# Altium footprint library My_PcbLib.PcbLib: 32 footprints (part 1 of 2)
Each footprint in its own frame and in the unit in brackets; x right, y up, seen from the top. Pads: shape width x height; smd on the part's side, far side on the other; paste and mask are expansions set on the pad; w line width, h text height; cw(c..) or ccw(c..) is an arc to the next point about the centre after c.
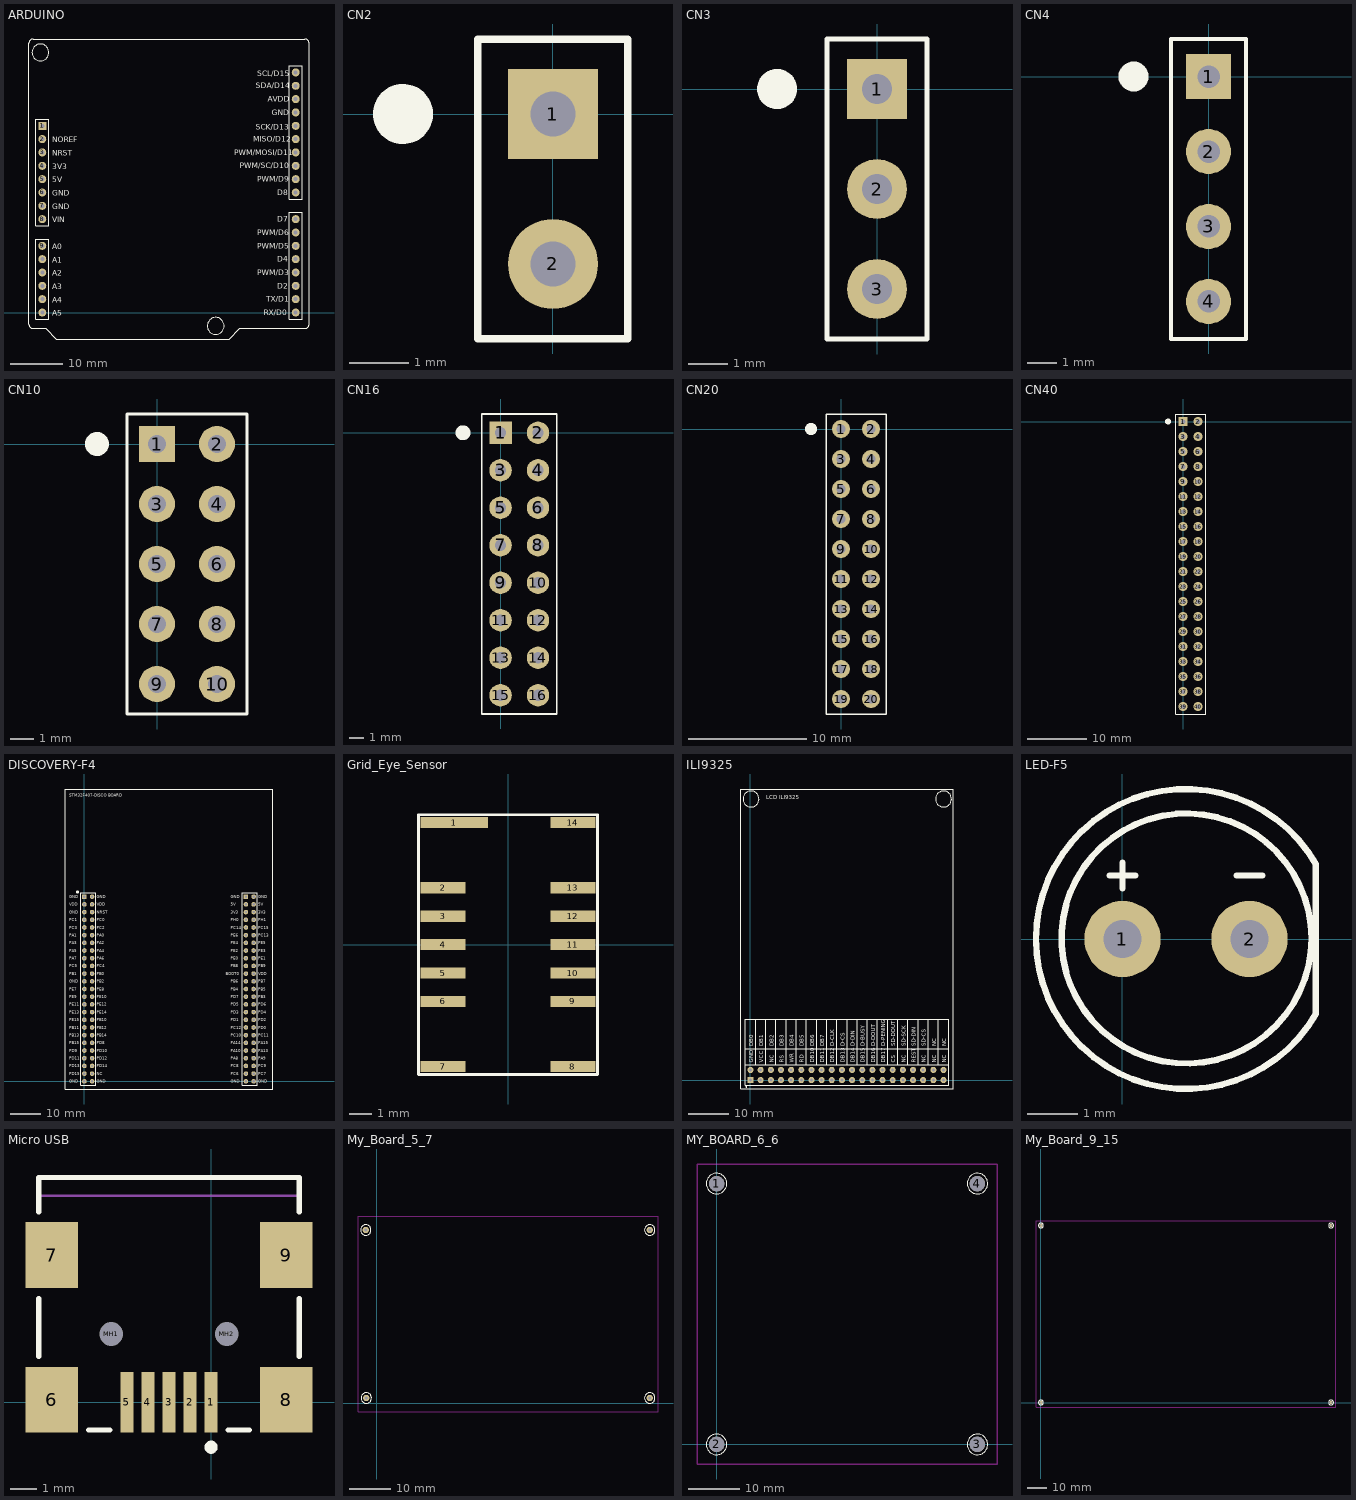
[diagram p0: the footprints below, top view; thin cyan lines are the x and y axes]

## ARDUINO [mil]
pads (32):
  rect 60x60 hole 30: 1(300,1400)
  round 60 hole 30: 2(300,1300) 3(300,1200) 4(300,1100) 5(300,1000) 6(300,900) 7(300,800) 8(300,700) 9(300,500) 10(300,400) 11(300,300) 12(300,200) 13(300,100) 14(300,0) 15(2200,1800) 16(2200,1700) 17(2200,1600) 18(2200,1500) 19(2200,1400) 20(2200,1300) 21(2200,1200) 22(2200,1000) 23(2200,1100) 24(2200,900) 25(2200,700) 26(2200,600) 27(2200,500) 28(2200,400) 29(2200,300) 30(2200,200) 31(2200,100) 32(2200,0)
Top Overlay:
  circle w5: c285.83,1950 r62.99
  circle w5: c1600,-100 r62.99
  lines w5: 200,-86.08 ccw(c233.6,-86.08) 233.6,-119.69 324.8,-119.69 403.54,-198.43 1702.76,-198.43 1781.5,-119.69 2266.4,-119.69 ccw(c2266.4,-86.08) 2300,-86.08 2300,2016.97 ccw(c2266.4,2016.97) 2266.4,2050.58 233.6,2050.58 ccw(c233.6,2016.97) 200,2016.97 200,-86.08 ; 250,-50 250,550 350,550 350,-50 250,-50 ; 250,650 250,1450 350,1450 350,650 250,650 ; 2150,-50 2225,-50 2250,-50 2250,50 2250,750 2150,750 2150,50 2150,-50 ; 2150,850 2150,1850 2250,1850 2250,850 2150,850
  text "VIN" at 375,675 h40
  text "GND" at 375,775 h40
  text "GND" at 375,875 h40
  text "5V" at 375,975 h40
  text "3V3" at 375,1075 h40
  text "NRST" at 375,1175 h40
  text "NOREF" at 375,1275 h40
  text "A0" at 375,475 h40
  text "A1" at 375,375 h40
  text "A2" at 375,275 h40
  text "A3" at 375,175 h40
  text "A4" at 375,75 h40
  text "A5" at 375,-25 h40
  text "SCL/D15" at 1910,1770 h40
  text "SDA/D14" at 1900,1680 h40
  text "AVDD" at 1990,1580 h40
  text "GND" at 2020,1480 h40
  text "SCK/D13" at 1900,1370 h40
  text "MISO/D12" at 1880,1280 h40
  text "PWM/MOSI/D11" at 1740,1180 h40
  text "PWM/SC/D10" at 1780,1080 h40
  text "PWM/D9" at 1910,980 h40
  text "D8" at 2060,880 h40
  text "D7" at 2060,680 h40
  text "PWM/D6" at 1910,580 h40
  text "PWM/D5" at 1910,480 h40
  text "D4" at 2060,380 h40
  text "PWM/D3" at 1910,280 h40
  text "D2" at 2060,180 h40
  text "TX/D1" at 1980,80 h40
  text "RX/D0" at 1960,-20 h40

## CN2 [mil] "Header 2 X 1"
pads (2):
  rect 60x60 hole 30: 1(0,0)
  round 60 hole 30: 2(0,-100)
Top Overlay:
  circle w20: c-100,0 r10
  lines w5: -50,-150 -50,50 50,50 50,-150 -50,-150

## CN3 [mil] "Hesder 3 X 1"
pads (3):
  rect 60x60 hole 30: 1(0,0)
  round 60 hole 30: 2(0,-100) 3(0,-200)
Top Overlay:
  circle w20: c-100,0 r10
  lines w5: -50,-250 -50,50 50,50 50,-250 -50,-250

## CN4 [mil] "Header 4 X 1"
pads (4):
  rect 60x60 hole 30: 1(0,0)
  round 60 hole 30: 2(0,-100) 3(0,-200) 4(0,-300)
Top Overlay:
  circle w20: c-100,0 r10
  lines w5: -50,-350 -50,50 50,50 50,-350 -50,-350

## CN10 [mil] "Header 5 X 2"
pads (10):
  rect 60x60 hole 30: 1(0,0)
  round 60 hole 30: 2(100,0) 3(0,-100) 4(100,-100) 5(0,-200) 6(100,-200) 7(0,-300) 8(100,-300) 9(0,-400) 10(100,-400)
Top Overlay:
  circle w20: c-100,0 r10
  lines w5: -50,-450 -50,50 150,50 150,-450 -50,-450

## CN16 [mil] "Header 8 X 2"
pads (16):
  rect 60x60 hole 30: 1(0,0)
  round 60 hole 30: 2(100,0) 3(0,-100) 4(100,-100) 5(0,-200) 6(100,-200) 7(0,-300) 8(100,-300) 9(0,-400) 10(100,-400) 11(0,-500) 12(100,-500) 13(0,-600) 14(100,-600) 15(0,-700) 16(100,-700)
Top Overlay:
  circle w20: c-100,0 r10
  lines w5: -50,-750 -50,50 150,50 150,-750 -50,-750

## CN20 [mil] "Header 10 X 2"
pads (20):
  round 60 hole 30: 1(0,0) 2(100,0) 3(0,-100) 4(100,-100) 5(0,-200) 6(100,-200) 7(0,-300) 8(100,-300) 9(0,-400) 10(100,-400) 11(0,-500) 12(100,-500) 13(0,-600) 14(100,-600) 15(0,-700) 16(100,-700) 17(0,-800) 18(100,-800) 19(0,-900) 20(100,-900)
Top Overlay:
  circle w20: c-100,0 r10
  lines w5: -50,-950 -50,50 150,50 150,-950 -50,-950

## CN40 [mil] "Hesder 20 X 2"
pads (40):
  rect 60x60 hole 30: 1(0,0)
  round 60 hole 30: 2(100,0) 3(0,-100) 4(100,-100) 5(0,-200) 6(100,-200) 7(0,-300) 8(100,-300) 9(0,-400) 10(100,-400) 11(0,-500) 12(100,-500) 13(0,-600) 14(100,-600) 15(0,-700) 16(100,-700) 17(0,-800) 18(100,-800) 19(0,-900) 20(100,-900) 21(0,-1000) 22(100,-1000) 23(0,-1100) 24(100,-1100) 25(0,-1200) 26(100,-1200) 27(0,-1300) 28(100,-1300) 29(0,-1400) 30(100,-1400) 31(0,-1500) 32(100,-1500) 33(0,-1600) 34(100,-1600) 35(0,-1700) 36(100,-1700) 37(0,-1800) 38(100,-1800) 39(0,-1900) 40(100,-1900)
Top Overlay:
  circle w20: c-100,0 r10
  lines w5: -50,-1950 -50,0 -50,50 150,50 150,-1950 -50,-1950

## DISCOVERY-F4 [mil] "ST DISCOVERY BOARD"
pads (100):
  rect 60x60 hole 30: 1(0,2400) 51(2100,2400)
  round 60 hole 30: 2(100,2400) 3(0,2300) 4(100,2300) 5(0,2200) 6(100,2200) 7(0,2100) 8(100,2100) 9(0,2000) 10(100,2000) 11(0,1900) 12(100,1900) 13(0,1800) 14(100,1800) 15(0,1700) 16(100,1700) 17(0,1600) 18(100,1600) 19(0,1500) 20(100,1500) 21(0,1400) 22(100,1400) 23(0,1300) 24(100,1300) 25(0,1200) 26(100,1200) 27(0,1100) 28(100,1100) 29(0,1000) 30(100,1000) 31(0,900) 32(100,900) 33(0,800) 34(100,800) 35(0,700) 36(100,700) 37(0,600) 38(100,600) 39(0,500) 40(100,500) 41(0,400) 42(100,400) 43(0,300) 44(100,300) 45(0,200) 46(100,200) 47(0,100) 48(100,100) 49(0,0) 50(100,0) 52(2200,2400) 53(2100,2300) 54(2200,2300) 55(2100,2200) 56(2200,2200) 57(2100,2100) 58(2200,2100) 59(2100,2000) 60(2200,2000) 61(2100,1900) 62(2200,1900) 63(2100,1800) 64(2200,1800) 65(2100,1700) 66(2200,1700) 67(2100,1600) 68(2200,1600) 69(2100,1500) 70(2200,1500) 71(2100,1400) 72(2200,1400) 73(2100,1300) 74(2200,1300) 75(2100,1200) 76(2200,1200) 77(2100,1100) 78(2200,1100) 79(2100,1000) 80(2200,1000) 81(2100,900) 82(2200,900) 83(2100,800) 84(2200,800) 85(2100,700) 86(2200,700) 87(2100,600) 88(2200,600) 89(2100,500) 90(2200,500) 91(2100,400) 92(2200,400) 93(2100,300) 94(2200,300) 95(2100,200) 96(2200,200) 97(2100,100) 98(2200,100) 99(2100,0) 100(2200,0)
Top Overlay:
  circle w20: c-90,2460 r10
  lines w5: -250,-100 -250,3800 2450,3800 2450,-100 2400,-100 2000,-100 -250,-100 ; -50,-50 150,-50 150,2450 -50,2450 -50,-50 ; 2050,-50 2250,-50 2250,2450 2050,2450 2050,-50
  text "GND" at 2260,-20 h40
  text "GND" at 1900,-20 h40
  text "PC7" at 2260,80 h40
  text "PC6" at 1900,80 h40
  text "PC9" at 2260,180 h40
  text "PC8" at 1900,180 h40
  text "PA9" at 2260,280 h40
  text "PA8" at 1900,280 h40
  text "PA13" at 2260,380 h40
  text "PA10" at 1900,380 h40
  text "PA15" at 2260,480 h40
  text "PA14" at 1900,480 h40
  text "PC11" at 2260,580 h40
  text "PC10" at 1900,580 h40
  text "PD0" at 2260,680 h40
  text "PC12" at 1900,680 h40
  text "PD2" at 2260,780 h40
  text "PD1" at 1900,780 h40
  text "PD4" at 2260,880 h40
  text "PD3" at 1900,880 h40
  text "PD6" at 2260,980 h40
  text "PD5" at 1900,980 h40
  text "PB3" at 2260,1080 h40
  text "PD7" at 1900,1080 h40
  text "PB5" at 2260,1180 h40
  text "PB4" at 1900,1180 h40
  text "PB7" at 2260,1280 h40
  text "PB6" at 1900,1280 h40
  text "VDD" at 2260,1380 h40
  text "BOOT0" at 1840,1380 h40
  text "PB9" at 2260,1480 h40
  text "PB8" at 1900,1480 h40
  text "PE1" at 2260,1580 h40
  text "PE0" at 1900,1580 h40
  text "PE3" at 2260,1680 h40
  text "PE2" at 1900,1680 h40
  text "PE5" at 2260,1780 h40
  text "PE4" at 1900,1780 h40
  text "PC13" at 2260,1880 h40
  text "PE6" at 1900,1880 h40
  text "PC15" at 2260,1980 h40
  text "PC14" at 1900,1980 h40
  text "PH1" at 2260,2080 h40
  text "PH0" at 1900,2080 h40
  text "3V3" at 2260,2180 h40
  text "3V3" at 1900,2180 h40
  text "5V" at 2260,2280 h40
  text "GND" at 2260,2380 h40
  text "5V" at 1900,2280 h40
  text "GND" at 1900,2380 h40
  text "GND" at 160,-20 h40
  text "GND" at -200,-20 h40
  text "NC" at 160,80 h40
  text "PD15" at -200,80 h40
  text "PD14" at 160,180 h40
  text "PD13" at -200,180 h40
  text "PD12" at 160,280 h40
  text "PD11" at -200,280 h40
  text "PD10" at 160,380 h40
  text "PD9" at -200,380 h40
  text "PD8" at 160,480 h40
  text "PB15" at -200,480 h40
  text "PB14" at 160,580 h40
  text "PB13" at -200,580 h40
  text "PB12" at 160,680 h40
  text "PB11" at -200,680 h40
  text "PB10" at 160,780 h40
  text "PE15" at -200,780 h40
  text "PE14" at 160,880 h40
  text "PE13" at -200,880 h40
  text "PE12" at 160,980 h40
  text "PE11" at -200,980 h40
  text "PE10" at 160,1080 h40
  text "PE9" at -200,1080 h40
  text "PE8" at 160,1180 h40
  text "PE7" at -200,1180 h40
  text "PB2" at 160,1280 h40
  text "GND" at -200,1280 h40
  text "PB0" at 160,1380 h40
  text "PB1" at -200,1380 h40
  text "PC4" at 160,1480 h40
  text "PC5" at -200,1480 h40
  text "PA6" at 160,1580 h40
  text "PA7" at -200,1580 h40
  text "PA4" at 160,1680 h40
  text "PA5" at -200,1680 h40
  text "PA2" at 160,1780 h40
  text "PA3" at -200,1780 h40
  text "PA0" at 160,1880 h40
  text "PA1" at -200,1880 h40
  text "PC2" at 160,1980 h40
  text "PC3" at -200,1980 h40
  text "PC0" at 160,2080 h40
  text "PC1" at -200,2080 h40
  text "NRST" at 160,2180 h40
  text "GND" at -200,2180 h40
  text "GND" at 160,2380 h40
  text "VDD" at 160,2280 h40
  text "VDD" at -200,2280 h40
  text "GND" at -200,2380 h40
  text "STM32F407-DISCO BOARD" at -200,3700 h40

## Grid_Eye_Sensor [mm] "Grid Eye Sensor"
pads (14):
  rect 3x0.5 smd: 1(-2.4,5.45)
  rect 2x0.5 smd: 2(-2.9,2.54) 3(-2.9,1.27) 4(-2.9,0) 5(-2.9,-1.27) 6(-2.9,-2.54) 7(-2.9,-5.45) 8(2.9,-5.45) 9(2.9,-2.54) 10(2.9,-1.27) 11(2.9,0) 12(2.9,1.27) 13(2.9,2.54) 14(2.9,5.45)
Top Overlay:
  lines w0.127: -4,-5.8 4,-5.8 4,5.8 -4,5.8 -4,-5.8
Bottom Paste:
  lines w0.027: -3.9,-5.8 -3.9,5.8 ; 3.9,-5.8 3.9,5.8

## ILI9325 [mil] "My  ILI9325 LCD module"
pads (40):
  rect 60x60 hole 30: 1(0,0)
  round 60 hole 30: 2(100,0) 3(200,0) 4(300,0) 5(400,0) 6(500,0) 7(600,0) 8(700,0) 9(800,0) 10(900,0) 11(1000,0) 12(1100,0) 13(1200,0) 14(1300,0) 15(1400,0) 16(1500,0) 17(1600,0) 18(1700,0) 19(1800,0) 20(1900,0) 21(0,100) 22(100,100) 23(200,100) 24(300,100) 25(400,100) 26(500,100) 27(600,100) 28(700,100) 29(800,100) 30(900,100) 31(1000,100) 32(1100,100) 33(1200,100) 34(1300,100) 35(1400,100) 36(1500,100) 37(1600,100) 38(1700,100) 39(1800,100) 40(1900,100)
Top Overlay:
  circle w10: c-40,-65 r5
  circle w5: c1900,2766.54 r78.74
  circle w5: c5.12,2766.54 r78.74
  lines w5: -50,310 1950,310 ; 50,150 50,600 ; 150,150 150,600 ; 250,150 250,600 ; 350,150 350,600 ; 450,150 450,600 ; 550,150 550,600 ; 650,150 650,600 ; 750,150 750,600 ; 850,150 850,600 ; 950,150 950,600 ; 1050,150 1050,600 ; 1150,150 1150,600 ; 1250,150 1250,600 ; 1350,150 1350,600 ; 1450,150 1450,600 ; 1550,150 1550,600 ; 1650,150 1650,600 ; 1750,150 1750,600 ; 1850,150 1850,600 ; -50,150 -50,600 1950,600 1950,150 ; -50,150 1950,150 ; -50,150 -50,-50 1950,-50 1950,150 ; -93.31,-87.8 1993.31,-87.8 1993.31,2864.96 -93.31,2864.96 -93.31,-87.8
  text "DB0" at 26.69,332.2 h40
  text "DB1" at 126.69,332.2 h40
  text "DB2" at 226.69,332.2 h40
  text "DB3" at 326.69,332.2 h40
  text "DB4" at 426.69,332.2 h40
  text "DB5" at 526.69,332.2 h40
  text "DB6" at 626.69,332.2 h40
  text "DB7" at 726.69,332.2 h40
  text "D-CLK" at 826.69,332.2 h40
  text "D-CS" at 926.69,332.2 h40
  text "D-DIN" at 1026.69,332.2 h40
  text "D-BUSY" at 1126.69,332.2 h40
  text "D-DOUT" at 1226.69,332.2 h40
  text "D-PENING" at 1326.69,332.2 h40
  text "SD-DOUT" at 1426.69,332.2 h40
  text "SD-SCK" at 1526.69,332.2 h40
  text "NC" at 1926.69,332.2 h40
  text "NC" at 1826.69,332.2 h40
  text "SD-CS" at 1726.69,332.2 h40
  text "SD-DIN" at 1626.69,332.2 h40
  text "NC" at 1926.69,172.2 h40
  text "NC" at 1826.69,172.2 h40
  text "NC" at 1726.69,172.2 h40
  text "REST" at 1626.69,172.2 h40
  text "NC" at 1526.69,172.2 h40
  text "CS" at 1426.69,172.2 h40
  text "DB17" at 1326.69,172.2 h40
  text "DB16" at 1226.69,172.2 h40
  text "DB15" at 1126.69,172.2 h40
  text "DB14" at 1026.69,172.2 h40
  text "DB13" at 926.69,172.2 h40
  text "DB12" at 826.69,172.2 h40
  text "DB11" at 726.69,172.2 h40
  text "DB10" at 626.69,172.2 h40
  text "RD" at 526.69,172.2 h40
  text "WR" at 426.69,172.2 h40
  text "RS" at 326.69,172.2 h40
  text "NC" at 226.69,172.2 h40
  text "VCC" at 126.69,172.2 h40
  text "GND" at 26.69,172.2 h40
  text "LCD ILI9325" at 156.69,2762.2 h40

## LED-F5 [mil] "LED F5 草帽灯"
pads (2):
  round 60 hole 30: 1(0,0) 2(100,0)
Top Overlay:
  circle w5: c50.4,0.4 r98.43
  lines w5: -10,50 10,50 ; 0,40 0,60 ; 90,50 110,50 ; 152.29,-59.06 cw(c50,0) 152.29,59.06 152.29,-57.98

## Micro USB [mm] "Micro USB 5p"
pads (11):
  rect 0.5x2.3 smd: 1(0,0) 2(-0.8,0) 3(-1.6,0) 4(-2.4,0) 5(-3.2,0)
  rect 2x2.5 smd: 6(-6.05,0.1) 7(-6.05,5.6) 8(2.85,0.1) 9(2.85,5.6)
  round 0.6 hole 0.9 unplated: MH1(-3.8,2.6) MH2(0.6,2.6)
Top Overlay:
  circle w0.25: c0,-1.7 r0.125
  lines w0.2: -6.55,1.75 -6.55,3.95 ; -6.55,7.25 -6.55,8.55 3.35,8.55 3.35,7.25 ; -4.65,-1.05 -3.85,-1.05 ; 0.65,-1.05 1.45,-1.05 ; 3.35,1.75 3.35,3.95
Mechanical 1:
  lines w0.1: -6.55,7.85 3.35,7.85
  text "PCB Edge" at 2.436,8.282 h0.25

## My_Board_5_7 [mil] "baord 5x7cm"
pads (4):
  round 60 hole 30: 1(-105,1650) 2(-100,50) 3(2600,50) 4(2600,1650)
Top Overlay:
  circle w10: c-100,50 r50
  circle w10: c2600,50 r50
  circle w10: c2600,1650 r50
  circle w10: c-105,1650 r50
Top Paste:
  drawing of 514 lines, arcs and shapes, not listed
Keep-Out Layer:
  lines w10: -178.74,-78.74 2678.74,-78.74 2678.74,1778.74 -178.74,1778.74 -178.74,-78.74

## MY_BOARD_6_6 [mm] "My Boaed 6 x 6 cm"
pads (4):
  round 3 hole 3: 1(0,50.8) 2(0,0) 3(50.8,0) 4(50.8,50.8)
Top Overlay:
  circle w0.127: c0,50.8 r2
  circle w0.127: c50.8,50.8 r2
  circle w0.127: c50.8,0 r2
  circle w0.127: c0,0 r2
Top Paste:
  drawing of 529 lines, arcs and shapes, not listed
Keep-Out Layer:
  lines w0.254: -3.81,-3.81 54.61,-3.81 54.61,54.61 -3.81,54.61 -3.81,-3.81

## My_Board_9_15 [mil] "9*15cm board"
pads (4):
  round 60 hole 30: 1(0,3600) 2(0,0) 3(5900,0) 4(5900,3600)
Top Overlay:
  circle w10: c0,0 r50
  circle w10: c5900,0 r50
  circle w10: c5900,3600 r50
  circle w10: c0,3600 r50
Top Paste:
  drawing of 2410 lines, arcs and shapes, not listed
Keep-Out Layer:
  lines w10: -100,-100 -100,3700 6000,3700 6000,-100 -100,-100